# Altium integrated library ME6211.IntLib: 1 symbol
Pins are listed as number, name and electrical type; pins without a type are passive.

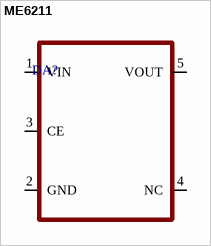
[diagram p0: symbol ME6211]

## ME6211
designator DA?
footprint SOT23-5
pins: 1 VIN, 2 GND, 3 CE, 4 NC, 5 VOUT